# Altium integrated library Others.IntLib: 2 symbols
Pins are listed as number, name and electrical type; pins without a type are passive.

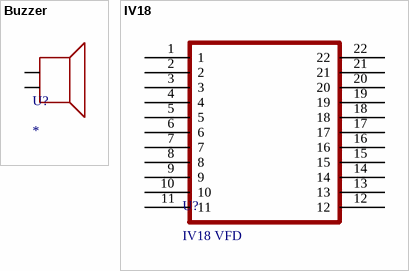
[diagram p0: symbols Buzzer to IV18]

## Buzzer
designator U?
footprint DET402
footprint MLT-4020H
footprint MLT-5020
pins: 1, 2

## IV18
designator U?, comment IV18 VFD
footprint IV18
pins: 1, 2, 3, 4, 5, 6, 7, 8, 9, 10, 11, 12, 13, 14, 15, 16, 17, 18, 19, 20, 21, 22